# Altium footprint library Connector.PcbLib: 58 footprints (part 3 of 4)
Each footprint in its own frame and in the unit in brackets; x right, y up, seen from the top. Pads: shape width x height; smd on the part's side, far side on the other; paste and mask are expansions set on the pad; w line width, h text height; cw(c..) or ccw(c..) is an arc to the next point about the centre after c.
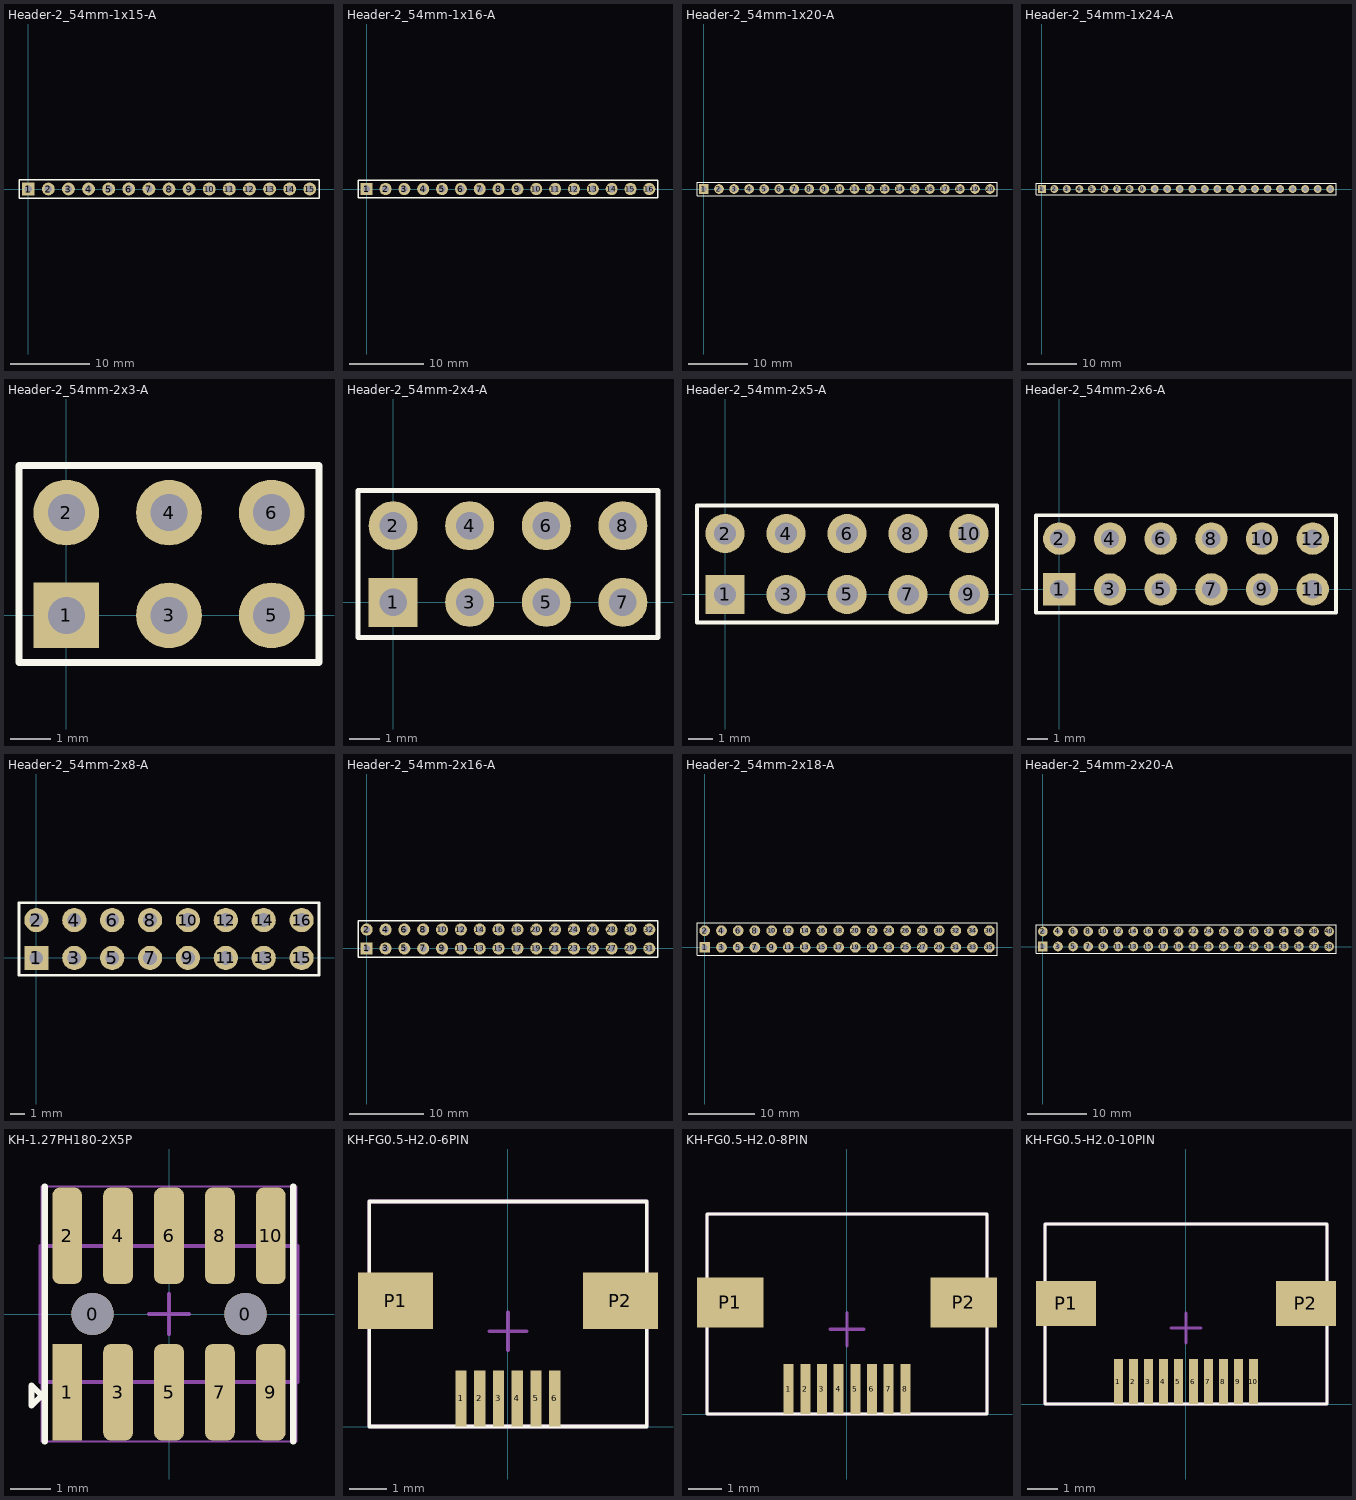
[diagram p2: the footprints below, top view; thin cyan lines are the x and y axes]

## Header-2_54mm-1x15-A [mil]
pads (15):
  rect 64x64 hole 36: 1(0,0)
  round 64 hole 36: 2(100,0) 3(200,0) 4(300,0) 5(400,0) 6(500,0) 7(600,0) 8(700,0) 9(800,0) 10(900,0) 11(1000,0) 12(1100,0) 13(1200,0) 14(1300,0) 15(1400,0)
Top Overlay:
  lines w7: -46,-46 -46,46 1446,46 1446,-46 -46,-46

## Header-2_54mm-1x16-A [mil]
pads (16):
  rect 64x64 hole 36: 1(0,0)
  round 64 hole 36: 2(100,0) 3(200,0) 4(300,0) 5(400,0) 6(500,0) 7(600,0) 8(700,0) 9(800,0) 10(900,0) 11(1000,0) 12(1100,0) 13(1200,0) 14(1300,0) 15(1400,0) 16(1500,0)
Top Overlay:
  lines w7: -46,-46 1546,-46 1546,46 -46,46 -46,-46

## Header-2_54mm-1x20-A [mil]
pads (20):
  rect 64x64 hole 36: 1(0,0)
  round 64 hole 36: 2(100,0) 3(200,0) 4(300,0) 5(400,0) 6(500,0) 7(600,0) 8(700,0) 9(800,0) 10(900,0) 11(1000,0) 12(1100,0) 13(1200,0) 14(1300,0) 15(1400,0) 16(1500,0) 17(1600,0) 18(1700,0) 19(1800,0) 20(1900,0)
Top Overlay:
  lines w7: -46,-46 -46,46 1946,46 1946,-46 -46,-46

## Header-2_54mm-1x24-A [mil]
pads (24):
  rect 64x64 hole 36: 1(0,0)
  round 64 hole 36: 2(100,0) 3(200,0) 4(300,0) 5(400,0) 6(500,0) 7(600,0) 8(700,0) 9(800,0) 10(900,0) 11(1000,0) 12(1100,0) 13(1200,0) 14(1300,0) 15(1400,0) 16(1500,0) 17(1600,0) 18(1700,0) 19(1800,0) 20(1900,0) 21(2000,0) 22(2100,0) 23(2200,0) 24(2300,0)
Top Overlay:
  lines w7: -46,-46 -46,46 2346,46 2346,-46 -46,-46

## Header-2_54mm-2x3-A [mil]
pads (6):
  rect 64x64 hole 36: 1(0,0)
  round 64 hole 36: 2(0,100) 3(100,0) 4(100,100) 5(200,0) 6(200,100)
Top Overlay:
  lines w7: -46,-46 246,-46 246,146 -46,146 -46,-46

## Header-2_54mm-2x4-A [mil]
pads (8):
  rect 64x64 hole 36: 1(0,0)
  round 64 hole 36: 2(0,100) 3(100,0) 4(100,100) 5(200,0) 6(200,100) 7(300,0) 8(300,100)
Top Overlay:
  lines w7: -46,-46 -46,146 346,146 346,-46 -46,-46

## Header-2_54mm-2x5-A [mil]
pads (10):
  rect 64x64 hole 36: 1(0,0)
  round 64 hole 36: 2(0,100) 3(100,0) 4(100,100) 5(200,0) 6(200,100) 7(300,0) 8(300,100) 9(400,0) 10(400,100)
Top Overlay:
  lines w7: -46,-46 -46,146 446,146 446,-46 -46,-46

## Header-2_54mm-2x6-A [mil]
pads (12):
  rect 64x64 hole 36: 1(0,0)
  round 64 hole 36: 2(0,100) 3(100,0) 4(100,100) 5(200,0) 6(200,100) 7(300,0) 8(300,100) 9(400,0) 10(400,100) 11(500,0) 12(500,100)
Top Overlay:
  lines w7: -46,-46 -46,146 546,146 546,-46 -46,-46

## Header-2_54mm-2x8-A [mil]
pads (16):
  rect 64x64 hole 36: 1(0,0)
  round 64 hole 36: 2(0,100) 3(100,0) 4(100,100) 5(200,0) 6(200,100) 7(300,0) 8(300,100) 9(400,0) 10(400,100) 11(500,0) 12(500,100) 13(600,0) 14(600,100) 15(700,0) 16(700,100)
Top Overlay:
  lines w7: -46,-46 746,-46 746,146 -46,146 -46,-46

## Header-2_54mm-2x16-A [mil]
pads (32):
  rect 64x64 hole 36: 1(0,0)
  round 64 hole 36: 2(0,100) 3(100,0) 4(100,100) 5(200,0) 6(200,100) 7(300,0) 8(300,100) 9(400,0) 10(400,100) 11(500,0) 12(500,100) 13(600,0) 14(600,100) 15(700,0) 16(700,100) 17(800,0) 18(800,100) 19(900,0) 20(900,100) 21(1000,0) 22(1000,100) 23(1100,0) 24(1100,100) 25(1200,0) 26(1200,100) 27(1300,0) 28(1300,100) 29(1400,0) 30(1400,100) 31(1500,0) 32(1500,100)
Top Overlay:
  lines w7: -46,-46 1546,-46 1546,146 -46,146 -46,-46

## Header-2_54mm-2x18-A [mil]
pads (36):
  rect 64x64 hole 36: 1(0,0)
  round 64 hole 36: 2(0,100) 3(100,0) 4(100,100) 5(200,0) 6(200,100) 7(300,0) 8(300,100) 9(400,0) 10(400,100) 11(500,0) 12(500,100) 13(600,0) 14(600,100) 15(700,0) 16(700,100) 17(800,0) 18(800,100) 19(900,0) 20(900,100) 21(1000,0) 22(1000,100) 23(1100,0) 24(1100,100) 25(1200,0) 26(1200,100) 27(1300,0) 28(1300,100) 29(1400,0) 30(1400,100) 31(1500,0) 32(1500,100) 33(1600,0) 34(1600,100) 35(1700,0) 36(1700,100)
Top Overlay:
  lines w7: -46,-46 -46,146 1746,146 1746,-46 -46,-46

## Header-2_54mm-2x20-A [mil]
pads (40):
  rect 64x64 hole 36: 1(0,0)
  round 64 hole 36: 2(0,100) 3(100,0) 4(100,100) 5(200,0) 6(200,100) 7(300,0) 8(300,100) 9(400,0) 10(400,100) 11(500,0) 12(500,100) 13(600,0) 14(600,100) 15(700,0) 16(700,100) 17(800,0) 18(800,100) 19(900,0) 20(900,100) 21(1000,0) 22(1000,100) 23(1100,0) 24(1100,100) 25(1200,0) 26(1200,100) 27(1300,0) 28(1300,100) 29(1400,0) 30(1400,100) 31(1500,0) 32(1500,100) 33(1600,0) 34(1600,100) 35(1700,0) 36(1700,100) 37(1800,0) 38(1800,100) 39(1900,0) 40(1900,100)
Top Overlay:
  lines w7: -46,-46 1946,-46 1946,146 -46,146 -46,-46

## KH-1.27PH180-2X5P [mm]
pads (12):
  round 1.05 hole 1.05 unplated: 0(-1.905,0) 0(1.905,0)
  rect 0.74x2.4 smd: 1(-2.54,-1.95)
  rrect50% 0.74x2.4 smd: 2(-2.54,1.95) 3(-1.27,-1.95) 4(-1.27,1.95) 5(0,-1.95) 6(0,1.95) 7(1.27,-1.95) 8(1.27,1.95) 9(2.54,-1.95) 10(2.54,1.95)
Top Overlay:
  lines w0.152: -3.099,-3.175 -3.099,3.175 ; 3.099,-3.175 3.099,3.175 ; -3.429,-2.286 -3.429,-1.778 -3.175,-2.032 -3.429,-2.286
Top Component Outline:
  lines w0.102: -3.2,-1.7 3.2,-1.7 3.2,1.7 -3.2,1.7 -3.2,-1.7
Top Courtyard:
  lines w0.05: -3.175,-3.175 3.175,-3.175 3.175,3.175 -3.175,3.175 -3.175,-3.175
Top Component Center:
  lines w0.1: -0.5,0 0.5,0 ; 0,-0.5 0,0.5
3D body "M50-3600542R.stp": height 5.13, standoff 0, extent -3.325,-2.75 3.325,2.75

## KH-FG0.5-H2.0-6PIN [mm] "SMD,P=0.5mm"
pads (8):
  rect 0.3x1.5 smd: 1(-1.25,0.75) 2(-0.75,0.75) 3(-0.25,0.75) 4(0.25,0.75) 5(0.75,0.75) 6(1.25,0.75)
  rect 2x1.5 smd: P1(-3,3.35) P2(3,3.35)
Top Overlay:
  lines w0.102: -3.7,0 3.7,0 3.7,6 -3.7,6 -3.7,0
Top Courtyard:
  lines w0.102: -3.7,0 -3.7,6 3.7,6 3.7,0 -3.7,0
Top Component Center:
  lines w0.1: -0.5,2.54 0.5,2.54 ; 0,2.04 0,3.04
3D body: height 0.2, standoff 0, extent -1.4,0 -1.1,0.9
3D body: height 0.2, standoff 0, extent -0.9,0 -0.6,0.9
3D body: height 0.2, standoff 0, extent -0.4,0 -0.1,0.9
3D body: height 0.2, standoff 0, extent 0.6,0 0.9,0.9
3D body: height 0.2, standoff 0, extent 1.1,0 1.4,0.9
3D body: height 0.2, standoff 0, extent 0.1,0 0.4,0.9
3D body: height 2.1, standoff 1, extent -1.905,2.794 1.905,6.198
3D body: height 2, standoff 0, extent -3.7,0.813 3.7,6

## KH-FG0.5-H2.0-8PIN [mm] "SMD,P=0.5mm"
pads (10):
  rect 0.3x1.5 smd: 1(-1.75,0.75) 2(-1.25,0.75) 3(-0.75,0.75) 4(-0.25,0.75) 5(0.25,0.75) 6(0.75,0.75) 7(1.25,0.75) 8(1.75,0.75)
  rect 2x1.5 smd: P1(-3.5,3.35) P2(3.5,3.35)
Top Overlay:
  lines w0.102: -4.2,0 -4.2,6 4.2,6 4.2,0 -4.2,0
Top Courtyard:
  lines w0.102: -4.2,0 4.2,0 4.2,6 -4.2,6 -4.2,0
Top Component Center:
  lines w0.1: -0.5,2.54 0.5,2.54 ; 0,2.04 0,3.04
3D body: height 2, standoff 0, extent -4.2,0.813 4.2,6
3D body: height 2.1, standoff 1, extent -3.556,2.794 3.556,6.198
3D body: height 0.2, standoff 0, extent -0.4,0 -0.1,0.9
3D body: height 0.2, standoff 0, extent 1.6,0 1.9,0.9
3D body: height 0.2, standoff 0, extent 1.1,0 1.4,0.9
3D body: height 0.2, standoff 0, extent 0.6,0 0.9,0.9
3D body: height 0.2, standoff 0, extent 0.1,0 0.4,0.9
3D body: height 0.2, standoff 0, extent -0.9,0 -0.6,0.9
3D body: height 0.2, standoff 0, extent -1.4,0 -1.1,0.9
3D body: height 0.2, standoff 0, extent -1.9,0 -1.6,0.9

## KH-FG0.5-H2.0-10PIN [mm] "SMD,P=0.5mm"
pads (12):
  rect 0.3x1.5 smd: 1(-2.25,0.75) 2(-1.75,0.75) 3(-1.25,0.75) 4(-0.75,0.75) 5(-0.25,0.75) 6(0.25,0.75) 7(0.75,0.75) 8(1.25,0.75) 9(1.75,0.75) 10(2.25,0.75)
  rect 2x1.5 smd: P1(-4,3.35) P2(4,3.35)
Top Overlay:
  lines w0.102: -4.7,0 -4.7,6 4.7,6 4.7,0 -4.7,0
Top Courtyard:
  lines w0.102: -4.7,0 -4.7,6 4.7,6 4.7,0 -4.7,0
Top Component Center:
  lines w0.1: -0.5,2.54 0.5,2.54 ; 0,2.04 0,3.04
3D body: height 0.2, standoff 0, extent 1.6,0 1.9,0.9
3D body: height 0.2, standoff 0, extent -1.9,0 -1.6,0.9
3D body: height 0.2, standoff 0, extent -2.4,0 -2.1,0.9
3D body: height 0.2, standoff 0, extent -1.4,0 -1.1,0.9
3D body: height 0.2, standoff 0, extent -0.9,0 -0.6,0.9
3D body: height 0.2, standoff 0, extent 0.1,0 0.4,0.9
3D body: height 0.2, standoff 0, extent 0.6,0 0.9,0.9
3D body: height 0.2, standoff 0, extent 1.1,0 1.4,0.9
3D body: height 0.2, standoff 0, extent 2.1,0 2.4,0.9
3D body: height 0.2, standoff 0, extent -0.4,0 -0.1,0.9
3D body: height 2.1, standoff 1, extent -3.556,2.794 3.556,6.198
3D body: height 2, standoff 0, extent -4.7,0.813 4.7,6